# Altium footprint library PQFN-12_3x3x05P.PcbLib: 1 footprints
Each footprint in its own frame and in the unit in brackets; x right, y up, seen from the top. Pads: shape width x height; smd on the part's side, far side on the other; paste and mask are expansions set on the pad; w line width, h text height; cw(c..) or ccw(c..) is an arc to the next point about the centre after c.
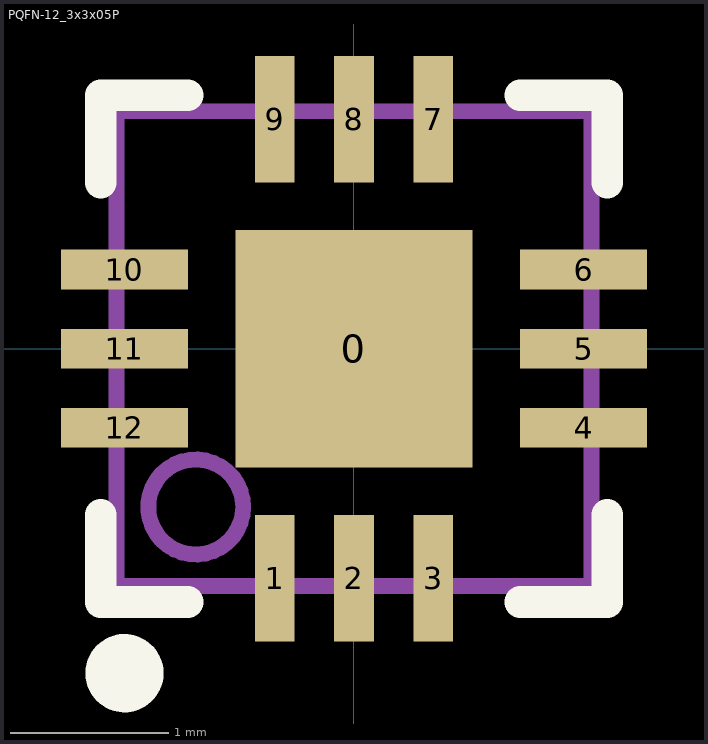
[diagram p0: the footprint, top view; thin cyan lines are the x and y axes]

## PQFN-12_3x3x05P [mm]
pads (13):
  rect 1.5x1.5 smd mask+0.051: 0(0,0)
  rect 0.25x0.8 smd mask+0.051: 1(-0.5,-1.45) 2(0,-1.45) 3(0.5,-1.45) 7(0.5,1.45) 8(0,1.45) 9(-0.5,1.45)
  rect 0.8x0.25 smd mask+0.051: 4(1.45,-0.5) 5(1.45,0) 6(1.45,0.5) 10(-1.45,0.5) 11(-1.45,0) 12(-1.45,-0.5)
Top Overlay:
  circle w0.254: c-1.45,-2.05 r0.12
  lines w0.2: -1.6,-1.05 -1.6,-1.6 -1.05,-1.6 ; -1.6,1.05 -1.6,1.6 -1.05,1.6 ; 1.05,-1.6 1.6,-1.6 1.6,-1.05 ; 1.05,1.6 1.6,1.6 1.6,1.05
Mechanical 13:
  circle w0.1: c-1,-1 r0.3
  lines w0.1: -1.5,-1.5 -1.5,1.5 1.5,1.5 1.5,-1.5 -1.5,-1.5